# Altium footprint library Pcblib_20110825.Pcblib: 408 footprints (part 11 of 26)
Each footprint in its own frame and in the unit in brackets; x right, y up, seen from the top. Pads: shape width x height; smd on the part's side, far side on the other; paste and mask are expansions set on the pad; w line width, h text height; cw(c..) or ccw(c..) is an arc to the next point about the centre after c.
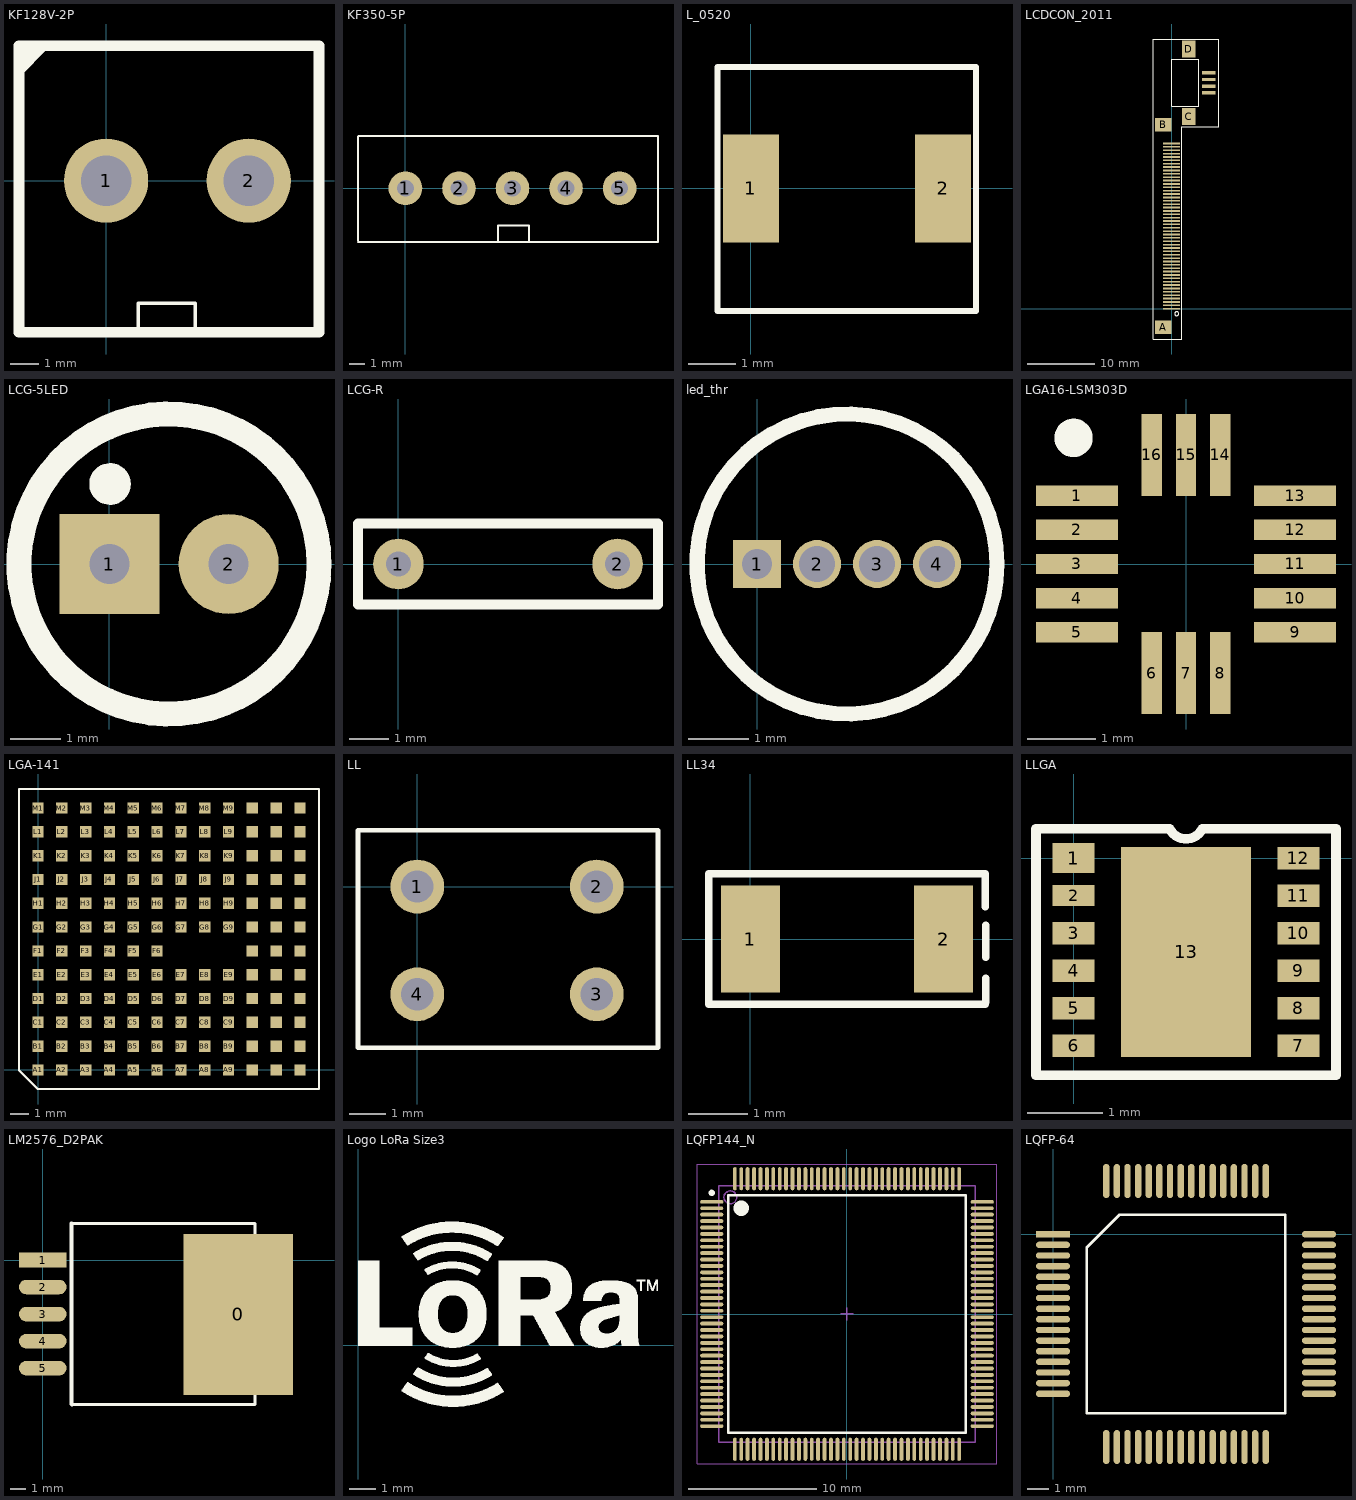
[diagram p10: the footprints below, top view; thin cyan lines are the x and y axes]

## KF128V-2P [mm]
pads (2):
  round 3 hole 1.8: 1(0,0) 2(5.08,0)
TopOverlay:
  lines w0.127: -3.1,4.191 -2.54,4.751 -2.54,4.8 -2.618,4.8 -3.1,4.318 ; -2.286,4.751 -2.286,4.8 ; 1.143,-5.359 1.143,-4.369 3.175,-4.369 3.175,-5.359
  lines w0.381: -3.1,3.937 -2.286,4.751 ; -3.1,-5.4 7.58,-5.4 7.58,4.8 -3.1,4.8 -3.1,-5.4

## KF350-5P [mm]
pads (5):
  round 2.2 hole 1.1: 1(0,0) 2(3.5,0) 3(7,0) 4(10.5,0) 5(14,0)
TopOverlay:
  lines w0.127: -3.1,-3.5 16.51,-3.5 16.51,3.4 -3.077,3.4 -3.1,3.377 -3.1,-3.404 ; 6.045,-3.429 6.045,-2.439 8.077,-2.439 8.077,-3.429

## L_0520 [mm]
pads (2):
  rect 1.2x2.3 smd: 1(0,0) 2(4.1,0)
TopOverlay:
  lines w0.127: -0.711,-2.616 4.801,-2.616 4.801,2.59 -0.711,2.59 -0.711,-2.616

## LCDCON_2011 [mm]
pads (58):
  rect 2.5x0.25 smd: 1(0,0) 2(0,0.5) 3(0,1) 4(0,1.5) 5(0,2) 6(0,2.5) 7(0,3) 8(0,3.5) 9(0,4) 10(0,4.5) 11(0,5) 12(0,5.5) 13(0,6) 14(0,6.5) 15(0,7) 16(0,7.5) 17(0,8) 18(0,8.5) 19(0,9) 20(0,9.5) 21(0,10) 22(0,10.5) 23(0,11) 24(0,11.5) 25(0,12) 26(0,12.5) 27(0,13) 28(0,13.5) 29(0,14) 30(0,14.5) 31(0,15) 32(0,15.5) 33(0,16) 34(0,16.5) 35(0,17) 36(0,17.5) 37(0,18) 38(0,18.5) 39(0,19) 40(0,19.5) 41(0,20) 42(0,20.5) 43(0,21) 44(0,21.5) 45(0,22) 46(0,22.5) 47(0,23) 48(0,23.5) 49(0,24) 50(0,24.5)
  rect 2x0.5 smd: 51(5.5,35) 52(5.5,34) 53(5.5,33) 54(5.5,32)
  rect 2.5x2 smd: A(-1.25,-2.75) B(-1.25,27.25)
  rect 2x2.5 smd: C(2.5,28.5) D(2.5,38.5)
TopOverlay:
  circle w0.178: c0.75,-0.75 r0.3
  lines w0.178: -2.75,-4.5 -2.75,40 7,40 7,27 1.5,27 1.5,-4.5 -2.75,-4.5 ; 0,30 0,37 4,37 4,30 0,30

## LCG-5LED [mm]
height 1.55
pads (2):
  rect 2x2 hole 0.8: 1(0,0)
  round 2 hole 0.8: 2(2.388,0)
TopOverlay:
  circle w0.5: c1.194,0 r3
  circle w0.254: c0.015,1.6 r0.29
  circle w0.254: c0.025,1.6 r0.057

## LCG-R [mil]
height 61.02
pads (2):
  round 50 hole 25: 1(0,0) 2(217,0)
TopOverlay:
  lines w10: -40,-40 0,-40 217,-40 257,-40 257,0 257,40 217,40 0,40 -40,40 -40,0 -40,-40

## led_thr [mm]
pads (4):
  rect 0.8x0.8 hole 0.5: 1(0,0)
  round 0.8 hole 0.6: 2(1,0) 3(2,0) 4(3,0)
TopOverlay:
  circle w0.254: c1.5,0 r2.5

## LGA16-LSM303D [mm]
pads (16):
  rect 1.2x0.3 smd: 1(-1.6,1) 2(-1.6,0.5) 3(-1.6,0) 4(-1.6,-0.5) 5(-1.6,-1) 9(1.6,-1) 10(1.6,-0.5) 11(1.6,0) 12(1.6,0.5) 13(1.6,1)
  rect 0.3x1.2 smd: 6(-0.5,-1.6) 7(0,-1.6) 8(0.5,-1.6) 14(0.5,1.6) 15(0,1.6) 16(-0.5,1.6)
TopOverlay:
  circle w0.381: c-1.65,1.85 r0.09

## LGA-141 [mm]
height 2.82
pads (141):
  rect 0.6x0.6 smd: A1(0,0) A2(1.27,0) A3(2.54,0) A4(3.81,0) A5(5.08,0) A6(6.35,0) A7(7.62,0) A8(8.89,0) A9(10.16,0) A10(11.43,0) A11(12.7,0) A12(13.97,0) B1(0,1.27) B2(1.27,1.27) B3(2.54,1.27) B4(3.81,1.27) B5(5.08,1.27) B6(6.35,1.27) B7(7.62,1.27) B8(8.89,1.27) B9(10.16,1.27) B10(11.43,1.27) B11(12.7,1.27) B12(13.97,1.27) C1(0,2.54) C2(1.27,2.54) C3(2.54,2.54) C4(3.81,2.54) C5(5.08,2.54) C6(6.35,2.54) C7(7.62,2.54) C8(8.89,2.54) C9(10.16,2.54) C10(11.43,2.54) C11(12.7,2.54) C12(13.97,2.54) D1(0,3.81) D2(1.27,3.81) D3(2.54,3.81) D4(3.81,3.81) D5(5.08,3.81) D6(6.35,3.81) D7(7.62,3.81) D8(8.89,3.81) D9(10.16,3.81) D10(11.43,3.81) D11(12.7,3.81) D12(13.97,3.81) E1(0,5.08) E2(1.27,5.08) E3(2.54,5.08) E4(3.81,5.08) E5(5.08,5.08) E6(6.35,5.08) E7(7.62,5.08) E8(8.89,5.08) E9(10.16,5.08) E10(11.43,5.08) E11(12.7,5.08) E12(13.97,5.08) F1(0,6.35) F2(1.27,6.35) F3(2.54,6.35) F4(3.81,6.35) F5(5.08,6.35) F6(6.35,6.35) F10(11.43,6.35) F11(12.7,6.35) F12(13.97,6.35) G1(0,7.62) G2(1.27,7.62) G3(2.54,7.62) G4(3.81,7.62) G5(5.08,7.62) G6(6.35,7.62) G7(7.62,7.62) G8(8.89,7.62) G9(10.16,7.62) G10(11.43,7.62) G11(12.7,7.62) G12(13.97,7.62) H1(0,8.89) H2(1.27,8.89) H3(2.54,8.89) H4(3.81,8.89) H5(5.08,8.89) H6(6.35,8.89) H7(7.62,8.89) H8(8.89,8.89) H9(10.16,8.89) H10(11.43,8.89) H11(12.7,8.89) H12(13.97,8.89) J1(0,10.16) J2(1.27,10.16) J3(2.54,10.16) J4(3.81,10.16) J5(5.08,10.16) J6(6.35,10.16) J7(7.62,10.16) J8(8.89,10.16) J9(10.16,10.16) J10(11.43,10.16) J11(12.7,10.16) J12(13.97,10.16) K1(0,11.43) K2(1.27,11.43) K3(2.54,11.43) K4(3.81,11.43) K5(5.08,11.43) K6(6.35,11.43) K7(7.62,11.43) K8(8.89,11.43) K9(10.16,11.43) K10(11.43,11.43) K11(12.7,11.43) K12(13.97,11.43) L1(0,12.7) L2(1.27,12.7) L3(2.54,12.7) L4(3.81,12.7) L5(5.08,12.7) L6(6.35,12.7) L7(7.62,12.7) L8(8.89,12.7) L9(10.16,12.7) L10(11.43,12.7) L11(12.7,12.7) L12(13.97,12.7) M1(0,13.97) M2(1.27,13.97) M3(2.54,13.97) M4(3.81,13.97) M5(5.08,13.97) M6(6.35,13.97) M7(7.62,13.97) M8(8.89,13.97) M9(10.16,13.97) M10(11.43,13.97) M11(12.7,13.97) M12(13.97,13.97)
TopOverlay:
  lines w0.127: -1.015,-0.015 -0.015,-1.015 14.985,-1.015 14.985,14.985 -1.015,14.985 -1.015,-0.015

## LL [mm]
pads (4):
  round 1.5 hole 0.9: 1(0,0) 2(5,0) 3(5,-3) 4(0,-3)
TopOverlay:
  lines w0.127: -1.651,-4.496 6.706,-4.496 6.706,1.575 -1.651,1.575 -1.651,-4.496

## LL34 [mm]
pads (2):
  rect 1x1.8 smd: 1(0,0) 2(3.25,0)
TopOverlay:
  lines w0.127: 3.95,-1.1 -0.7,-1.1 -0.7,1.1 3.95,1.1 3.95,0.546 ; 3.962,-1.067 3.962,-0.66 ; 3.962,-0.305 3.962,0.229

## LLGA [mm]
pads (13):
  rect 0.56x0.4 smd: 1(0,0)
  rect 0.56x0.28 smd: 2(0,-0.5)
  rect 0.56x0.3 smd: 3(0,-1) 4(0,-1.5) 5(0,-2) 6(0,-2.5) 7(3,-2.5) 8(3,-2) 9(3,-1.5) 10(3,-1) 11(3,-0.5) 12(3,0)
  rect 1.73x2.8 smd: 13(1.5,-1.25)
TopOverlay:
  lines w0.127: -0.5,-2.896 3.5,-2.896 3.5,0.396 1.719,0.396 cw(c1.5,0.5) 1.281,0.396 -0.5,0.396 -0.5,-2.896

## LM2576_D2PAK [mm]
height 0.6
pads (6):
  rect 6.89x10.16 smd: 0(12.319,-3.429)
  rect 3x0.914 smd: 1(0.01,0)
  oval 3x0.914 smd: 2(0.01,-1.702) 3(0.01,-3.404) 4(0.01,-5.106) 5(0.01,-6.808)
TopOverlay:
  lines w0.2: 1.82,2.29 13.375,2.29 13.375,-9.09 1.845,-9.09 1.845,0.851
  lines w0.254: 1.82,2.29 1.82,-9.065 1.845,-9.09

## Logo LoRa Size3 [mm] "Logo LoRa Size3 - Top Overlay"
TopOverlay:
  drawing of 2375 lines, arcs and shapes, not listed

## LQFP144_N [mm] "Thin QFP, 144-Leads, Body 20x20mm, Pitch 0.5mm, IPC Medium Density"
height 1.6
pads (144):
  oval 1.8x0.3 smd: 1(-10.55,8.75) 2(-10.55,8.25) 3(-10.55,7.75) 4(-10.55,7.25) 5(-10.55,6.75) 6(-10.55,6.25) 7(-10.55,5.75) 8(-10.55,5.25) 9(-10.55,4.75) 10(-10.55,4.25) 11(-10.55,3.75) 12(-10.55,3.25) 13(-10.55,2.75) 14(-10.55,2.25) 15(-10.55,1.75) 16(-10.55,1.25) 17(-10.55,0.75) 18(-10.55,0.25) 19(-10.55,-0.25) 20(-10.55,-0.75) 21(-10.55,-1.25) 22(-10.55,-1.75) 23(-10.55,-2.25) 24(-10.55,-2.75) 25(-10.55,-3.25) 26(-10.55,-3.75) 27(-10.55,-4.25) 28(-10.55,-4.75) 29(-10.55,-5.25) 30(-10.55,-5.75) 31(-10.55,-6.25) 32(-10.55,-6.75) 33(-10.55,-7.25) 34(-10.55,-7.75) 35(-10.55,-8.25) 36(-10.55,-8.75) 73(10.55,-8.75) 74(10.55,-8.25) 75(10.55,-7.75) 76(10.55,-7.25) 77(10.55,-6.75) 78(10.55,-6.25) 79(10.55,-5.75) 80(10.55,-5.25) 81(10.55,-4.75) 82(10.55,-4.25) 83(10.55,-3.75) 84(10.55,-3.25) 85(10.55,-2.75) 86(10.55,-2.25) 87(10.55,-1.75) 88(10.55,-1.25) 89(10.55,-0.75) 90(10.55,-0.25) 91(10.55,0.25) 92(10.55,0.75) 93(10.55,1.25) 94(10.55,1.75) 95(10.55,2.25) 96(10.55,2.75) 97(10.55,3.25) 98(10.55,3.75) 99(10.55,4.25) 100(10.55,4.75) 101(10.55,5.25) 102(10.55,5.75) 103(10.55,6.25) 104(10.55,6.75) 105(10.55,7.25) 106(10.55,7.75) 107(10.55,8.25) 108(10.55,8.75)
  oval 0.3x1.8 smd: 37(-8.75,-10.55) 38(-8.25,-10.55) 39(-7.75,-10.55) 40(-7.25,-10.55) 41(-6.75,-10.55) 42(-6.25,-10.55) 43(-5.75,-10.55) 44(-5.25,-10.55) 45(-4.75,-10.55) 46(-4.25,-10.55) 47(-3.75,-10.55) 48(-3.25,-10.55) 49(-2.75,-10.55) 50(-2.25,-10.55) 51(-1.75,-10.55) 52(-1.25,-10.55) 53(-0.75,-10.55) 54(-0.25,-10.55) 55(0.25,-10.55) 56(0.75,-10.55) 57(1.25,-10.55) 58(1.75,-10.55) 59(2.25,-10.55) 60(2.75,-10.55) 61(3.25,-10.55) 62(3.75,-10.55) 63(4.25,-10.55) 64(4.75,-10.55) 65(5.25,-10.55) 66(5.75,-10.55) 67(6.25,-10.55) 68(6.75,-10.55) 69(7.25,-10.55) 70(7.75,-10.55) 71(8.25,-10.55) 72(8.75,-10.55) 109(8.75,10.55) 110(8.25,10.55) 111(7.75,10.55) 112(7.25,10.55) 113(6.75,10.55) 114(6.25,10.55) 115(5.75,10.55) 116(5.25,10.55) 117(4.75,10.55) 118(4.25,10.55) 119(3.75,10.55) 120(3.25,10.55) 121(2.75,10.55) 122(2.25,10.55) 123(1.75,10.55) 124(1.25,10.55) 125(0.75,10.55) 126(0.25,10.55) 127(-0.25,10.55) 128(-0.75,10.55) 129(-1.25,10.55) 130(-1.75,10.55) 131(-2.25,10.55) 132(-2.75,10.55) 133(-3.25,10.55) 134(-3.75,10.55) 135(-4.25,10.55) 136(-4.75,10.55) 137(-5.25,10.55) 138(-5.75,10.55) 139(-6.25,10.55) 140(-6.75,10.55) 141(-7.25,10.55) 142(-7.75,10.55) 143(-8.25,10.55) 144(-8.75,10.55)
TopOverlay:
  circle w0.25: c-10.55,9.45 r0.125
  circle w0.6: c-8.25,8.25 r0.3
  lines w0.2: -9.25,-9.25 -9.25,9.25 9.25,9.25 9.25,-9.25 -9.25,-9.25
Mechanical13:
  circle w0.1: c-9.1,9.1 r0.5
  lines w0.1: -10,-10 -10,10 10,10 10,-10 -10,-10
Mechanical15:
  lines w0.05: -11.7,-11.7 -11.7,11.7 11.7,11.7 11.7,-11.7 -11.7,-11.7
  lines w0.1: -0.5,0 0.5,0 ; 0,-0.5 0,0.5
3D body: height 1.6, standoff 0, extent -10,-10 10,10

## LQFP-64 [mm]
pads (64):
  rect 1.6x0.3 smd: 1(0,0)
  oval 1.6x0.3 smd: 2(0,-0.5) 3(0,-1) 4(0,-1.5) 5(0,-2) 6(0,-2.5) 7(0,-3) 8(0,-3.5) 9(0,-4) 10(0,-4.5) 11(0,-5) 12(0,-5.5) 13(0,-6) 14(0,-6.5) 15(0,-7) 16(0,-7.5) 33(12.5,-7.5) 34(12.5,-7) 35(12.5,-6.5) 36(12.5,-6) 37(12.5,-5.5) 38(12.5,-5) 39(12.5,-4.5) 40(12.5,-4) 41(12.5,-3.5) 42(12.5,-3) 43(12.5,-2.5) 44(12.5,-2) 45(12.5,-1.5) 46(12.5,-1) 47(12.5,-0.5) 48(12.5,0)
  oval 0.3x1.6 smd: 17(2.5,-10) 18(3,-10) 19(3.5,-10) 20(4,-10) 21(4.5,-10) 22(5,-10) 23(5.5,-10) 24(6,-10) 25(6.5,-10) 26(7,-10) 27(7.5,-10) 28(8,-10) 29(8.5,-10) 30(9,-10) 31(9.5,-10) 32(10,-10) 49(10,2.5) 50(9.5,2.5) 51(9,2.5) 52(8.5,2.5) 53(8,2.5) 54(7.5,2.5) 55(7,2.5) 56(6.5,2.5) 57(6,2.5) 58(5.5,2.5) 59(5,2.5) 60(4.5,2.5) 61(4,2.5) 62(3.5,2.5) 63(3,2.5) 64(2.5,2.5)
TopOverlay:
  lines w0.127: 1.585,-8.415 1.585,-0.62 3.12,0.915 10.915,0.915 10.915,-8.415 1.585,-8.415